# Altium footprint library PCB1.PcbLib: 5 footprints
Each footprint in its own frame and in the unit in brackets; x right, y up, seen from the top. Pads: shape width x height; smd on the part's side, far side on the other; paste and mask are expansions set on the pad; w line width, h text height; cw(c..) or ccw(c..) is an arc to the next point about the centre after c.
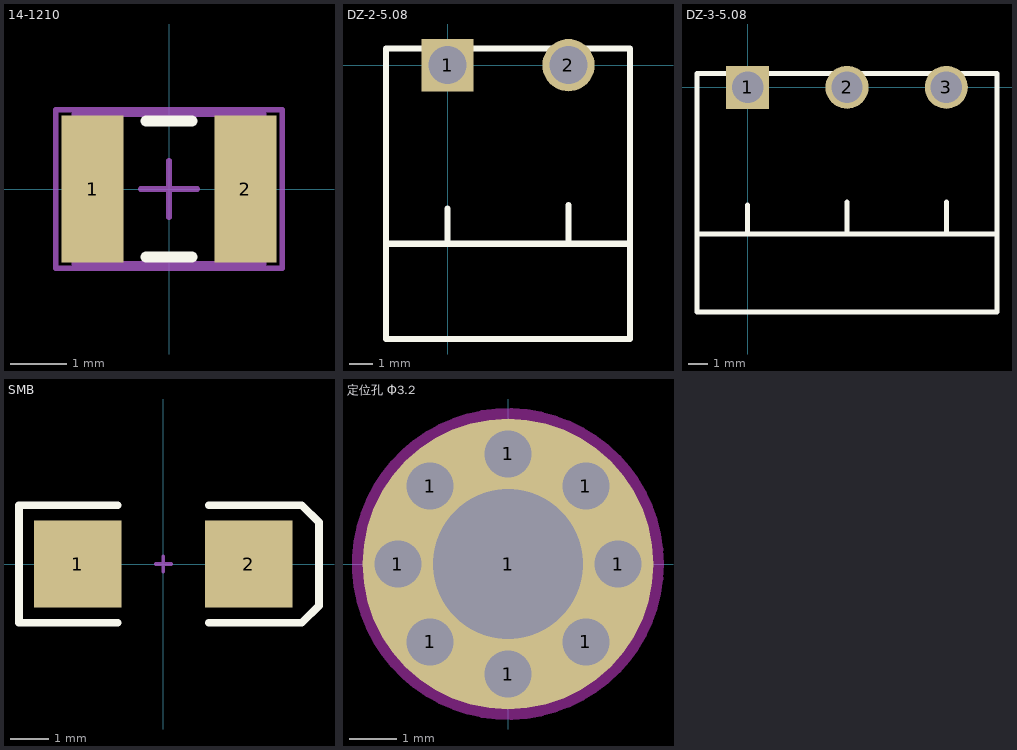
[diagram p0: the footprints below, top view; thin cyan lines are the x and y axes]

## 14-1210 [mm] "Chip Resistor, Body 3.2x2.5mm, IPC High Density"
height 0.9
pads (2):
  rect 1.1x2.6 smd: 1(-1.35,0) 2(1.35,0)
Top Overlay:
  lines w0.2: -0.4,-1.2 0.4,-1.2 ; -0.4,1.2 0.4,1.2
Mechanical 13:
  lines w0.1: -1.675,-1.32 -1.675,1.32 1.675,1.32 1.675,-1.32 -1.675,-1.32
Mechanical 15:
  lines w0.1: -0.5,0 0.5,0 ; 0,-0.5 0,0.5 ; -2,-1.4 -2,1.4 2,1.4 2,-1.4 -2,-1.4
3D body: height 0.9, standoff 0, extent -1.675,-1.32 1.675,1.32

## DZ-2-5.08 [mm]
pads (2):
  rect 2.2x2.2 hole 1.6: 1(0,0)
  round 2.2 hole 1.6: 2(5.08,0)
Top Overlay:
  lines w0.254: -2.59,-7.5 7.645,-7.5 ; -2.59,0.689 -2.59,0 -2.59,-11.5 0,-11.5 7.67,-11.5 7.67,0 7.67,0.675 ; -2.579,0.7 0,0.7 7.67,0.7 ; 0,-7.5 0,-6.027 ; 5.08,-7.475 5.08,-5.874

## DZ-3-5.08 [mm]
pads (3):
  rect 2.2x2.2 hole 1.6: 1(0,0)
  round 2.2 hole 1.6: 2(5.08,0) 3(10.16,0)
Top Overlay:
  lines w0.254: -2.59,-7.5 7.645,-7.5 12.725,-7.5 ; -2.59,0.689 -2.59,0 -2.59,-11.5 0,-11.5 7.67,-11.5 ; -2.579,0.7 0,0.7 7.67,0.7 ; 0,-7.5 0,-6.027 ; 5.08,-11.5 12.75,-11.5 12.75,0 12.75,0.675 ; 5.08,-7.5 5.08,-6.027 ; 5.08,-7.475 5.08,-5.874 ; 5.08,0.7 12.75,0.7 ; 10.16,-7.475 10.16,-5.874

## SMB [mm] "DO-214-AA/SMB; 2 C-Bend Leads; Body 5.3 x 3.6 mm, inc. leads (LxW)"
height 2.54
pads (2):
  rect 2.3x2.3 smd: 1(-2.25,0) 2(2.25,0)
Top Overlay:
  lines w0.2: -1.2,-1.55 -3.8,-1.55 -3.8,1.55 -1.2,1.55 ; 1.2,-1.55 3.65,-1.55 4.1,-1.1 4.1,1.1 3.65,1.55 1.2,1.55
Mechanical 1:
  lines w0.1: -0.2,0 0.2,0 ; 0,-0.2 0,0.2

## 定位孔 Φ3.2 [mm]
pads (9):
  round 1 hole 1 unplated: 1(-2.35,0) 1(-1.662,-1.662) 1(-1.662,1.662) 1(0,-2.35) 1(0,2.35) 1(1.662,-1.662) 1(1.662,1.662) 1(2.35,0)
  round 6.2 hole 3.2: 1(0,0)
Keep-Out Layer:
  circle w0.254: c0,0 r3.2